# Altium integrated library Linear Technology Power Management PMIC Multifunction.IntLib: 360 symbols (part 33 of 42)
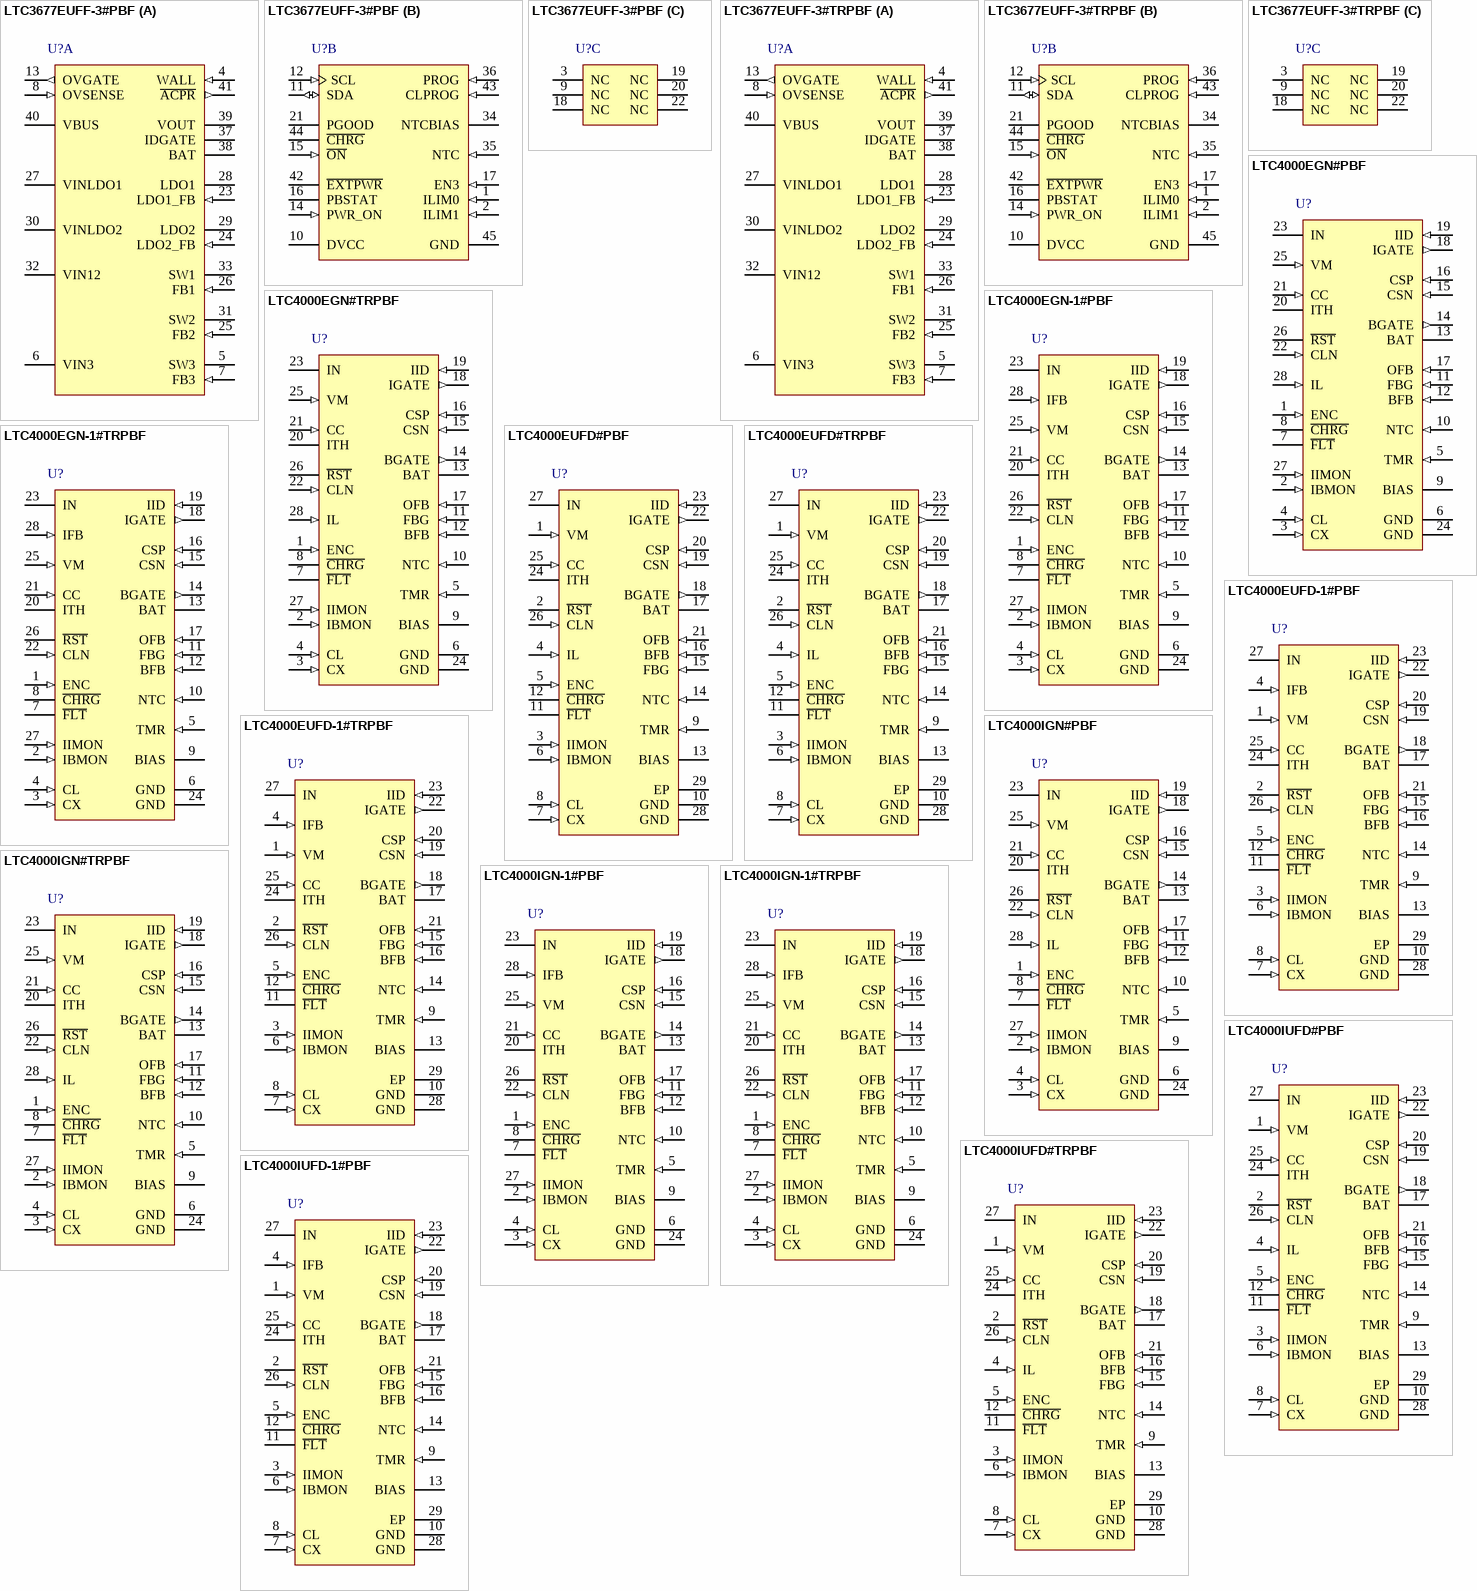
[diagram p50: symbols LTC3677EUFF-3#PBF to LTC4000IUFD-1#PBF]

## LTC4000EUFD#PBF
designator U?
High Voltage High Current Controller for Battery Charging and Power Management, 3 to 60 V Vin, 28-pin QFN (UFD-28), -40 to 125 degC, Pb-Free; Manufacturer: Linear Technology; PartNumber: LTC4000EUFD#PBF; Number of Cells: Set by external charger IC; Number of Outputs: 1; Vin Max(V): 60; Vin Min(V): 3; DatasheetVersion: Rev. B; PackageVersion: Rev. B, 06/2010; PackageReference: UFD-28; PackageDescription: 28-Pin Plastic QFN, Body 5 x 4 mm, Pitch 0.5 mm; Supplier 1: Digi-Key; Supplier Part Number 1: LTC4000EUFD#PBF-ND; Supplier 2: Newark; Supplier Part Number 2: 59T9356; RoHS: TRUE; Mounting Technology: Surface Mount; Code_JEDEC: MO-220; ComponentLink1Description: Manufacturer URL; ComponentLink1URL: http://www.linear.com/; ComponentLink2Description: Datasheet; ComponentLink2URL: http://cds.linear.com/docs/en/datasheet/4000fb.pdf; ComponentLink3Description: Package Specification; ComponentLink3URL: http://cds.linear.com/docs/en/packaging/QFN_28_05-08-1712.pdf
footprint LT-UFD-28_N (QFN, 28-Leads, Body 5.1x4.1mm, Pitch 0.5mm, Thermal Pad 3.65x2.65mm, IPC Medium Density)
footprint LT-UFD-28_L (QFN, 28-Leads, Body 5.1x4.1mm, Pitch 0.5mm, Thermal Pad 3.65x2.65mm, IPC High Density)
footprint LT-UFD-28_M (QFN, 28-Leads, Body 5.1x4.1mm, Pitch 0.5mm, Thermal Pad 3.65x2.65mm, IPC Low Density)
pins: 1 VM (in) "Voltage Monitor Input. High impedance input to an accurate comparator with a 1.193V threshold (typical). This pin controls the state of the R\S\T\ output pin. Connect a resistor divider (RVM1, RVM2) between the monitored (See Datasheet)", 2 ~{RST} (hiz) "High Voltage Open Drain Reset Output. When the voltage at the VM pin is below 1.193V, this status pin is pulled low. When driven low, this pin can disable a DC/DC converter when connected to the converter’s enable pin(See Datasheet)", 3 IIMON (in) "Input Current Monitor. The voltage on this pin is 20 times (typical) the sense voltage (VIN,CLN) across the input current sense resistor(RIS), therefore providing a voltage proportional to the input current. Connect an (See Datasheet)", 4 IL (in) "Input Current Limit Programming. Connect the input current programming resistor (RIL) to this pin. This pin sources 50uA of current. The regulation loop compares the voltage on this pin with the input current monitor voltage (See Datasheet)", 5 ENC (in) "Enable Charging Pin. High impedance digital input pin. Pull this pin above 1.5V to enable charging and below 0.5V to disable charging. Leaving this pin open causes the internal 2uA pull-up current to pull the pin to 2.5V (See Datasheet)", 6 IBMON (in) "Battery Charge Current Monitor. The voltage on this pin is 20 times (typical) the sense voltage (VCSP,CSN) across the battery current sense resistor (RCS), therefore providing a voltage proportional to the battery charge (See Datasheet)", 7 CX (in) "Charge Current Termination Programming. Connect the charge current termination programming resistor (RCX) to this pin. This pin is a high impedance input to a comparator and sources 5uA of current. When the voltage on this (See Datasheet)", 8 CL (in) "Charge Current Limit Programming. Connect the charge current programming resistor (RCL) to this pin. This pin sources 50uA of current. The regulation loop compares the voltage on this pin with the charge current monitor (See Datasheet)", 9 TMR (in) "Charge Timer. Attach 1nF of external capacitance (CTMR) to GND for each 104 seconds of charge termination time and 26 seconds of bad battery indicator time. Short to GND to prevent bad battery indicator time and charge (See Datasheet)", 10 GND (power) "Device Ground Pins. Connect the ground pins to a suitable PCB copper ground plane for proper electrical operation. The QFN package exposed pad must be soldered to PCB ground for rated thermal performance.", 11 ~{FLT} (hiz) "Charge Status Indicator Pins. These pins are high voltage open drain pull down pins. The F\L\T\ pin pulls down when there is an under or over temperature condition during charging or when the voltage on the BFB pin stays (See Datasheet)", 12 ~{CHRG} (hiz) "Charge Status Indicator Pins. These pins are high voltage open drain pull down pins. The F\L\T\ pin pulls down when there is an under or over temperature condition during charging or when the voltage on the BFB pin stays (See Datasheet)", 13 BIAS (power) "2.9V Regulator Output. Connect a capacitor of at least 470nF to bypass this 2.9V regulated voltage output. Use this pin to bias the resistor divider to set up the voltage at the NTC pin.", 14 NTC (in) "Thermistor Input. Connect a thermistor from NTC to GND, and a corresponding resistor from BIAS to NTC. The voltage level on this pin determines if the battery temperature is safe for charging. The charge current and charge (See Datasheet)", 15 FBG (in) "Feedback Ground Pin. This is the ground return pin for the resistor dividers connected to the BFB and OFB pins. As soon as the voltage at IN is valid (>3V typical), this pin has a 100ohm resistance to GND. When the voltage (See Datasheet)", 16 BFB (in) "Battery Feedback Voltage Pin. This pin is a high impedance input pin used to sense the battery voltage level. In regulation, the battery float voltage loop sets the voltage on this pin to 1.136V (typical). Connect this pin (See Datasheet)", 17 BAT (power) "Battery Pack Connection. Connect the battery to this pin. This pin is the anode of the battery ideal diode driver (the cathode is the CSN pin).", 18 BGATE (out) "External Battery PMOS Gate Drive Output. When not charging, the BGATE pin drives the external PMOS to behave as an ideal diode from the BAT pin (anode) to the CSN pin (cathode). This allows efficient delivery of any required (See Datasheet)", 19 CSN (in) "Charge Current Sense Negative Input and Battery Ideal Diode Cathode. Connect a sense resistor between this pin and the CSP pin. The LTC4000 senses the voltage across this sense resistor and regulates it to a voltage equal to (See Datasheet)", 20 CSP (in) "Charge Current Sense Positive Input and Input Ideal Diode Cathode. Connect a sense resistor between this pin and the CSN pin for charge current sensing and regulation. This input should be tied to CSN to disable the charge (See Datasheet)", 21 OFB (in) "Output Feedback Voltage Pin. This pin is a high impedance input pin used to sense the output voltage level. In regulation, the output voltage loop sets the voltage on this feedback pin to 1.193V. Connect this pin to the (See Datasheet)", 22 IGATE (out) "Input PMOS Gate Drive Output. The IGATE pin drives the external PMOS to behave as an ideal diode from the IID pin (anode) to the CSP pin (cathode) when the voltage at the IN pin is within its operating range (3V to 60V). To (See Datasheet)", 23 IID (in) "Input Ideal Diode Anode. This pin is the anode of the input ideal diode driver (the cathode is the CSP pin).", 24 ITH "High Impedance Control Voltage Pin. When any of the regulation loops (input current, charge current, battery float voltage or the output voltage) indicate that its limit is reached, the ITH pin will sink current (up to 1mA) (See Datasheet)", 25 CC (in) "Converter Compensation Pin. Connect an R-C network from this pin to the ITH pin to provide a suitable loop compensation for the converter used. Refer to the Applications Information section for discussion and procedure on (See Datasheet)", 26 CLN (in) "Input Current Sense Negative Input. Connect a sense resistor between this pin and the IN pin. The LTC4000 senses the voltage across this sense resistor and regulates it to a voltage equal to 1/20th (typical) of the voltage (See Datasheet)", 27 IN (power) "Input Supply Voltage: 3V to 60V. Supplies power to the internal circuitry and the BIAS pin. Connect the power source to the downstream system and the battery charger to this pin. This pin is also the positive sense pin for (See Datasheet)", 28 GND (power) "Device Ground Pins. Connect the ground pins to a suitable PCB copper ground plane for proper electrical operation. The QFN package exposed pad must be soldered to PCB ground for rated thermal performance.", 29 EP (power) "Device Ground Pins. Connect the ground pins to a suitable PCB copper ground plane for proper electrical operation. The QFN package exposed pad must be soldered to PCB ground for rated thermal performance."

## LTC4000EUFD#TRPBF
designator U?
High Voltage High Current Controller for Battery Charging and Power Management, 3 to 60 V Vin, 28-pin QFN (UFD-28), -40 to 125 degC, Pb-Free, Tape and Reel; Manufacturer: Linear Technology; PartNumber: LTC4000EUFD#TRPBF; Number of Cells: Set by external charger IC; Number of Outputs: 1; Vin Max(V): 60; Vin Min(V): 3; DatasheetVersion: Rev. B; PackageVersion: Rev. B, 06/2010; PackageReference: UFD-28; PackageDescription: 28-Pin Plastic QFN, Body 5 x 4 mm, Pitch 0.5 mm; Supplier 1: Digi-Key; Supplier Part Number 1: LTC4000EUFD#TRPBF-ND; Packing: Tape and Reel; RoHS: TRUE; Mounting Technology: Surface Mount; Code_JEDEC: MO-220; ComponentLink1Description: Manufacturer URL; ComponentLink1URL: http://www.linear.com/; ComponentLink2Description: Datasheet; ComponentLink2URL: http://cds.linear.com/docs/en/datasheet/4000fb.pdf; ComponentLink3Description: Package Specification; ComponentLink3URL: http://cds.linear.com/docs/en/packaging/QFN_28_05-08-1712.pdf
footprint LT-UFD-28_N (QFN, 28-Leads, Body 5.1x4.1mm, Pitch 0.5mm, Thermal Pad 3.65x2.65mm, IPC Medium Density)
footprint LT-UFD-28_L (QFN, 28-Leads, Body 5.1x4.1mm, Pitch 0.5mm, Thermal Pad 3.65x2.65mm, IPC High Density)
footprint LT-UFD-28_M (QFN, 28-Leads, Body 5.1x4.1mm, Pitch 0.5mm, Thermal Pad 3.65x2.65mm, IPC Low Density)
pins: 1 VM (in) "Voltage Monitor Input. High impedance input to an accurate comparator with a 1.193V threshold (typical). This pin controls the state of the R\S\T\ output pin. Connect a resistor divider (RVM1, RVM2) between the monitored (See Datasheet)", 2 ~{RST} (hiz) "High Voltage Open Drain Reset Output. When the voltage at the VM pin is below 1.193V, this status pin is pulled low. When driven low, this pin can disable a DC/DC converter when connected to the converter’s enable pin(See Datasheet)", 3 IIMON (in) "Input Current Monitor. The voltage on this pin is 20 times (typical) the sense voltage (VIN,CLN) across the input current sense resistor(RIS), therefore providing a voltage proportional to the input current. Connect an (See Datasheet)", 4 IL (in) "Input Current Limit Programming. Connect the input current programming resistor (RIL) to this pin. This pin sources 50uA of current. The regulation loop compares the voltage on this pin with the input current monitor voltage (See Datasheet)", 5 ENC (in) "Enable Charging Pin. High impedance digital input pin. Pull this pin above 1.5V to enable charging and below 0.5V to disable charging. Leaving this pin open causes the internal 2uA pull-up current to pull the pin to 2.5V (See Datasheet)", 6 IBMON (in) "Battery Charge Current Monitor. The voltage on this pin is 20 times (typical) the sense voltage (VCSP,CSN) across the battery current sense resistor (RCS), therefore providing a voltage proportional to the battery charge (See Datasheet)", 7 CX (in) "Charge Current Termination Programming. Connect the charge current termination programming resistor (RCX) to this pin. This pin is a high impedance input to a comparator and sources 5uA of current. When the voltage on this (See Datasheet)", 8 CL (in) "Charge Current Limit Programming. Connect the charge current programming resistor (RCL) to this pin. This pin sources 50uA of current. The regulation loop compares the voltage on this pin with the charge current monitor (See Datasheet)", 9 TMR (in) "Charge Timer. Attach 1nF of external capacitance (CTMR) to GND for each 104 seconds of charge termination time and 26 seconds of bad battery indicator time. Short to GND to prevent bad battery indicator time and charge (See Datasheet)", 10 GND (power) "Device Ground Pins. Connect the ground pins to a suitable PCB copper ground plane for proper electrical operation. The QFN package exposed pad must be soldered to PCB ground for rated thermal performance.", 11 ~{FLT} (hiz) "Charge Status Indicator Pins. These pins are high voltage open drain pull down pins. The F\L\T\ pin pulls down when there is an under or over temperature condition during charging or when the voltage on the BFB pin stays (See Datasheet)", 12 ~{CHRG} (hiz) "Charge Status Indicator Pins. These pins are high voltage open drain pull down pins. The F\L\T\ pin pulls down when there is an under or over temperature condition during charging or when the voltage on the BFB pin stays (See Datasheet)", 13 BIAS (power) "2.9V Regulator Output. Connect a capacitor of at least 470nF to bypass this 2.9V regulated voltage output. Use this pin to bias the resistor divider to set up the voltage at the NTC pin.", 14 NTC (in) "Thermistor Input. Connect a thermistor from NTC to GND, and a corresponding resistor from BIAS to NTC. The voltage level on this pin determines if the battery temperature is safe for charging. The charge current and charge (See Datasheet)", 15 FBG (in) "Feedback Ground Pin. This is the ground return pin for the resistor dividers connected to the BFB and OFB pins. As soon as the voltage at IN is valid (>3V typical), this pin has a 100ohm resistance to GND. When the voltage (See Datasheet)", 16 BFB (in) "Battery Feedback Voltage Pin. This pin is a high impedance input pin used to sense the battery voltage level. In regulation, the battery float voltage loop sets the voltage on this pin to 1.136V (typical). Connect this pin (See Datasheet)", 17 BAT (power) "Battery Pack Connection. Connect the battery to this pin. This pin is the anode of the battery ideal diode driver (the cathode is the CSN pin).", 18 BGATE (out) "External Battery PMOS Gate Drive Output. When not charging, the BGATE pin drives the external PMOS to behave as an ideal diode from the BAT pin (anode) to the CSN pin (cathode). This allows efficient delivery of any required (See Datasheet)", 19 CSN (in) "Charge Current Sense Negative Input and Battery Ideal Diode Cathode. Connect a sense resistor between this pin and the CSP pin. The LTC4000 senses the voltage across this sense resistor and regulates it to a voltage equal to (See Datasheet)", 20 CSP (in) "Charge Current Sense Positive Input and Input Ideal Diode Cathode. Connect a sense resistor between this pin and the CSN pin for charge current sensing and regulation. This input should be tied to CSN to disable the charge (See Datasheet)", 21 OFB (in) "Output Feedback Voltage Pin. This pin is a high impedance input pin used to sense the output voltage level. In regulation, the output voltage loop sets the voltage on this feedback pin to 1.193V. Connect this pin to the (See Datasheet)", 22 IGATE (out) "Input PMOS Gate Drive Output. The IGATE pin drives the external PMOS to behave as an ideal diode from the IID pin (anode) to the CSP pin (cathode) when the voltage at the IN pin is within its operating range (3V to 60V). To (See Datasheet)", 23 IID (in) "Input Ideal Diode Anode. This pin is the anode of the input ideal diode driver (the cathode is the CSP pin).", 24 ITH "High Impedance Control Voltage Pin. When any of the regulation loops (input current, charge current, battery float voltage or the output voltage) indicate that its limit is reached, the ITH pin will sink current (up to 1mA) (See Datasheet)", 25 CC (in) "Converter Compensation Pin. Connect an R-C network from this pin to the ITH pin to provide a suitable loop compensation for the converter used. Refer to the Applications Information section for discussion and procedure on (See Datasheet)", 26 CLN (in) "Input Current Sense Negative Input. Connect a sense resistor between this pin and the IN pin. The LTC4000 senses the voltage across this sense resistor and regulates it to a voltage equal to 1/20th (typical) of the voltage (See Datasheet)", 27 IN (power) "Input Supply Voltage: 3V to 60V. Supplies power to the internal circuitry and the BIAS pin. Connect the power source to the downstream system and the battery charger to this pin. This pin is also the positive sense pin for (See Datasheet)", 28 GND (power) "Device Ground Pins. Connect the ground pins to a suitable PCB copper ground plane for proper electrical operation. The QFN package exposed pad must be soldered to PCB ground for rated thermal performance.", 29 EP (power) "Device Ground Pins. Connect the ground pins to a suitable PCB copper ground plane for proper electrical operation. The QFN package exposed pad must be soldered to PCB ground for rated thermal performance."

## LTC4000EUFD-1#PBF
designator U?
High Voltage High Current Controller for Battery Charging with Maximum Power Point Control, 3 to 60 V Vin, 28-pin QFN (UFD-28), -40 to 125 degC, Pb-Free; Manufacturer: Linear Technology; PartNumber: LTC4000EUFD-1#PBF; Number of Cells: Set by external charger IC; Number of Outputs: 1; Vin Max(V): 60; Vin Min(V): 3; DatasheetVersion: Rev. A; PackageVersion: Rev. B, 06/2010; PackageReference: UFD-28; PackageDescription: 28-Pin Plastic QFN, Body 5 x 4 mm, Pitch 0.5 mm; Supplier 1: Digi-Key; Supplier Part Number 1: LTC4000EUFD-1#PBF-ND; Supplier 2: Farnell; Supplier Part Number 2: 2215170; Supplier 3: Newark; Supplier Part Number 3: 28W4618; RoHS: TRUE; Mounting Technology: Surface Mount; Code_JEDEC: MO-220; ComponentLink1Description: Manufacturer URL; ComponentLink1URL: http://www.linear.com/; ComponentLink2Description: Datasheet; ComponentLink2URL: http://cds.linear.com/docs/en/datasheet/40001fa.pdf; ComponentLink3Description: Package Specification; ComponentLink3URL: http://cds.linear.com/docs/en/packaging/QFN_28_05-08-1712.pdf
footprint LT-UFD-28_N (QFN, 28-Leads, Body 5.1x4.1mm, Pitch 0.5mm, Thermal Pad 3.65x2.65mm, IPC Medium Density)
footprint LT-UFD-28_L (QFN, 28-Leads, Body 5.1x4.1mm, Pitch 0.5mm, Thermal Pad 3.65x2.65mm, IPC High Density)
footprint LT-UFD-28_M (QFN, 28-Leads, Body 5.1x4.1mm, Pitch 0.5mm, Thermal Pad 3.65x2.65mm, IPC Low Density)
pins: 1 VM (in) "Voltage Monitor Input. High impedance input to an accurate comparator with a 1.193V threshold (typical). This pin controls the state of the R\S\T\ output pin. Connect a resistor divider (RVM1, RVM2) between the monitored (See Datasheet)", 2 ~{RST} (hiz) "High Voltage Open Drain Reset Output. When the voltage at the VM pin is below 1.193V, this status pin is pulled low. When driven low, this pin can disable a DC/DC converter when connected to the converter’s enable pin(See Datasheet)", 3 IIMON (in) "Input Current Monitor. The voltage on this pin is 20 times (typical) the sense voltage (VIN,CLN) across the input current sense resistor(RIS), therefore providing a voltage proportional to the input current. Connect an (See Datasheet)", 4 IFB (in) "Input Voltage Feedback Pin. This pin is a high impedance input pin used to sense the input voltage level. In regulation, the input voltage loop sets the voltage on this feedback pin to 1.000V. When the input feedback voltage (See Datasheet)", 5 ENC (in) "Enable Charging Pin. High impedance digital input pin. Pull this pin above 1.5V to enable charging and below 0.5V to disable charging. Leaving this pin open causes the internal 2uA pull-up current to pull the pin to 2.5V (See Datasheet)", 6 IBMON (in) "Battery Charge Current Monitor. The voltage on this pin is 20 times (typical) the sense voltage (VCSP,CSN) across the battery current sense resistor (RCS), therefore providing a voltage proportional to the battery charge (See Datasheet)", 7 CX (in) "Charge Current Termination Programming. Connect the charge current termination programming resistor (RCX) to this pin. This pin is a high impedance input to a comparator and sources 5uA of current. When the voltage on this (See Datasheet)", 8 CL (in) "Charge Current Limit Programming. Connect the charge current programming resistor (RCL) to this pin. This pin sources 50uA of current. The regulation loop compares the voltage on this pin with the charge current monitor (See Datasheet)", 9 TMR (in) "Charge Timer. Attach 1nF of external capacitance (CTMR) to GND for each 104 seconds of charge termination time and 26 seconds of bad battery indicator time. Short to GND to prevent bad battery indicator time and charge (See Datasheet)", 10 GND (power) "Device Ground Pins. Connect the ground pins to a suitable PCB copper ground plane for proper electrical operation. The QFN package exposed pad must be soldered to PCB ground for rated thermal performance.", 11 ~{FLT} (hiz) "Charge Status Indicator Pins. These pins are high voltage open drain pull down pins. The F\L\T\ pin pulls down when there is an under or over temperature condition during charging or when the voltage on the BFB pin stays (See Datasheet)", 12 ~{CHRG} (hiz) "Charge Status Indicator Pins. These pins are high voltage open drain pull down pins. The F\L\T\ pin pulls down when there is an under or over temperature condition during charging or when the voltage on the BFB pin stays (See Datasheet)", 13 BIAS (power) "2.9V Regulator Output. Connect a capacitor of at least 470nF to bypass this 2.9V regulated voltage output. Use this pin to bias the resistor divider to set up the voltage at the NTC pin.", 14 NTC (in) "Thermistor Input. Connect a thermistor from NTC to GND, and a corresponding resistor from BIAS to NTC. The voltage level on this pin determines if the battery temperature is safe for charging. The charge current and charge (See Datasheet)", 15 FBG (in) "Feedback Ground Pin. This is the ground return pin for the resistor dividers connected to the BFB and OFB pins. As soon as the voltage at IN is valid (>3V typical), this pin has a 100ohm resistance to GND. When the voltage (See Datasheet)", 16 BFB (in) "Battery Feedback Voltage Pin. This pin is a high impedance input pin used to sense the battery voltage level. In regulation, the battery float voltage loop sets the voltage on this pin to 1.136V (typical). Connect this pin (See Datasheet)", 17 BAT (power) "Battery Pack Connection. Connect the battery to this pin. This pin is the anode of the battery ideal diode driver (the cathode is the CSN pin).", 18 BGATE (out) "External Battery PMOS Gate Drive Output. When not charging, the BGATE pin drives the external PMOS to behave as an ideal diode from the BAT pin (anode) to the CSN pin (cathode). This allows efficient delivery of any required (See Datasheet)", 19 CSN (in) "Charge Current Sense Negative Input and Battery Ideal Diode Cathode. Connect a sense resistor between this pin and the CSP pin. The LTC4000-1 senses the voltage across this sense resistor and regulates it to a voltage equal (See Datasheet)", 20 CSP (in) "Charge Current Sense Positive Input and Input Ideal Diode Cathode. Connect a sense resistor between this pin and the CSN pin for charge current sensing and regulation. This input should be tied to CSN to disable the charge (See Datasheet)", 21 OFB (in) "Output Feedback Voltage Pin. This pin is a high impedance input pin used to sense the output voltage level. In regulation, the output voltage loop sets the voltage on this feedback pin to 1.193V. Connect this pin to the (See Datasheet)", 22 IGATE (out) "Input PMOS Gate Drive Output. The IGATE pin drives the external PMOS to behave as an ideal diode from the IID pin (anode) to the CSP pin (cathode) when the voltage at the IN pin is within its operating range (3V to 60V). To (See Datasheet)", 23 IID (in) "Input Ideal Diode Anode. This pin is the anode of the input ideal diode driver (the cathode is the CSP pin).", 24 ITH "High Impedance Control Voltage Pin. When any of the regulation loops (input voltage, charge current, battery float voltage or the output voltage) indicate that its limit is reached, the ITH pin will sink current (up to 1mA) (See Datasheet)", 25 CC (in) "Converter Compensation Pin. Connect an R-C network from this pin to the ITH pin to provide a suitable loop compensation for the converter used. Refer to the Applications Information section for discussion and procedure on (See Datasheet)", 26 CLN (in) "Input Current Sense Negative Input. Connect a sense resistor between this pin and the IN pin. The LTC4000-1 senses the voltage across this sense resistor and sets the voltage on the IIMON pin equal to 20 times this voltage. (See Datasheet)", 27 IN (power) "Input Supply Voltage: 3V to 60V. Supplies power to the internal circuitry and the BIAS pin. Connect the power source to the downstream system and the battery charger to this pin. This pin is also the positive sense pin for (See Datasheet)", 28 GND (power) "Device Ground Pins. Connect the ground pins to a suitable PCB copper ground plane for proper electrical operation. The QFN package exposed pad must be soldered to PCB ground for rated thermal performance.", 29 EP (power) "Device Ground Pins. Connect the ground pins to a suitable PCB copper ground plane for proper electrical operation. The QFN package exposed pad must be soldered to PCB ground for rated thermal performance."

## LTC4000EUFD-1#TRPBF
designator U?
High Voltage High Current Controller for Battery Charging with Maximum Power Point Control, 3 to 60 V Vin, 28-pin QFN (UFD-28), -40 to 125 degC, Pb-Free, Tape and Reel; Manufacturer: Linear Technology; PartNumber: LTC4000EUFD-1#TRPBF; Number of Cells: Set by external charger IC; Number of Outputs: 1; Vin Max(V): 60; Vin Min(V): 3; DatasheetVersion: Rev. A; PackageVersion: Rev. B, 06/2010; PackageReference: UFD-28; PackageDescription: 28-Pin Plastic QFN, Body 5 x 4 mm, Pitch 0.5 mm; Supplier 1: Digi-Key; Supplier Part Number 1: LTC4000EUFD-1#TRPBF-ND; Supplier 2: Newark; Supplier Part Number 2: 28W4619; Packing: Tape and Reel; RoHS: TRUE; Mounting Technology: Surface Mount; Code_JEDEC: MO-220; ComponentLink1Description: Manufacturer URL; ComponentLink1URL: http://www.linear.com/; ComponentLink2Description: Datasheet; ComponentLink2URL: http://cds.linear.com/docs/en/datasheet/40001fa.pdf; ComponentLink3Description: Package Specification; ComponentLink3URL: http://cds.linear.com/docs/en/packaging/QFN_28_05-08-1712.pdf
footprint LT-UFD-28_N (QFN, 28-Leads, Body 5.1x4.1mm, Pitch 0.5mm, Thermal Pad 3.65x2.65mm, IPC Medium Density)
footprint LT-UFD-28_L (QFN, 28-Leads, Body 5.1x4.1mm, Pitch 0.5mm, Thermal Pad 3.65x2.65mm, IPC High Density)
footprint LT-UFD-28_M (QFN, 28-Leads, Body 5.1x4.1mm, Pitch 0.5mm, Thermal Pad 3.65x2.65mm, IPC Low Density)
pins: 1 VM (in) "Voltage Monitor Input. High impedance input to an accurate comparator with a 1.193V threshold (typical). This pin controls the state of the R\S\T\ output pin. Connect a resistor divider (RVM1, RVM2) between the monitored (See Datasheet)", 2 ~{RST} (hiz) "High Voltage Open Drain Reset Output. When the voltage at the VM pin is below 1.193V, this status pin is pulled low. When driven low, this pin can disable a DC/DC converter when connected to the converter’s enable pin(See Datasheet)", 3 IIMON (in) "Input Current Monitor. The voltage on this pin is 20 times (typical) the sense voltage (VIN,CLN) across the input current sense resistor(RIS), therefore providing a voltage proportional to the input current. Connect an (See Datasheet)", 4 IFB (in) "Input Voltage Feedback Pin. This pin is a high impedance input pin used to sense the input voltage level. In regulation, the input voltage loop sets the voltage on this feedback pin to 1.000V. When the input feedback voltage (See Datasheet)", 5 ENC (in) "Enable Charging Pin. High impedance digital input pin. Pull this pin above 1.5V to enable charging and below 0.5V to disable charging. Leaving this pin open causes the internal 2uA pull-up current to pull the pin to 2.5V (See Datasheet)", 6 IBMON (in) "Battery Charge Current Monitor. The voltage on this pin is 20 times (typical) the sense voltage (VCSP,CSN) across the battery current sense resistor (RCS), therefore providing a voltage proportional to the battery charge (See Datasheet)", 7 CX (in) "Charge Current Termination Programming. Connect the charge current termination programming resistor (RCX) to this pin. This pin is a high impedance input to a comparator and sources 5uA of current. When the voltage on this (See Datasheet)", 8 CL (in) "Charge Current Limit Programming. Connect the charge current programming resistor (RCL) to this pin. This pin sources 50uA of current. The regulation loop compares the voltage on this pin with the charge current monitor (See Datasheet)", 9 TMR (in) "Charge Timer. Attach 1nF of external capacitance (CTMR) to GND for each 104 seconds of charge termination time and 26 seconds of bad battery indicator time. Short to GND to prevent bad battery indicator time and charge (See Datasheet)", 10 GND (power) "Device Ground Pins. Connect the ground pins to a suitable PCB copper ground plane for proper electrical operation. The QFN package exposed pad must be soldered to PCB ground for rated thermal performance.", 11 ~{FLT} (hiz) "Charge Status Indicator Pins. These pins are high voltage open drain pull down pins. The F\L\T\ pin pulls down when there is an under or over temperature condition during charging or when the voltage on the BFB pin stays (See Datasheet)", 12 ~{CHRG} (hiz) "Charge Status Indicator Pins. These pins are high voltage open drain pull down pins. The F\L\T\ pin pulls down when there is an under or over temperature condition during charging or when the voltage on the BFB pin stays (See Datasheet)", 13 BIAS (power) "2.9V Regulator Output. Connect a capacitor of at least 470nF to bypass this 2.9V regulated voltage output. Use this pin to bias the resistor divider to set up the voltage at the NTC pin.", 14 NTC (in) "Thermistor Input. Connect a thermistor from NTC to GND, and a corresponding resistor from BIAS to NTC. The voltage level on this pin determines if the battery temperature is safe for charging. The charge current and charge (See Datasheet)", 15 FBG (in) "Feedback Ground Pin. This is the ground return pin for the resistor dividers connected to the BFB and OFB pins. As soon as the voltage at IN is valid (>3V typical), this pin has a 100ohm resistance to GND. When the voltage (See Datasheet)", 16 BFB (in) "Battery Feedback Voltage Pin. This pin is a high impedance input pin used to sense the battery voltage level. In regulation, the battery float voltage loop sets the voltage on this pin to 1.136V (typical). Connect this pin (See Datasheet)", 17 BAT (power) "Battery Pack Connection. Connect the battery to this pin. This pin is the anode of the battery ideal diode driver (the cathode is the CSN pin).", 18 BGATE (out) "External Battery PMOS Gate Drive Output. When not charging, the BGATE pin drives the external PMOS to behave as an ideal diode from the BAT pin (anode) to the CSN pin (cathode). This allows efficient delivery of any required (See Datasheet)", 19 CSN (in) "Charge Current Sense Negative Input and Battery Ideal Diode Cathode. Connect a sense resistor between this pin and the CSP pin. The LTC4000-1 senses the voltage across this sense resistor and regulates it to a voltage equal (See Datasheet)", 20 CSP (in) "Charge Current Sense Positive Input and Input Ideal Diode Cathode. Connect a sense resistor between this pin and the CSN pin for charge current sensing and regulation. This input should be tied to CSN to disable the charge (See Datasheet)", 21 OFB (in) "Output Feedback Voltage Pin. This pin is a high impedance input pin used to sense the output voltage level. In regulation, the output voltage loop sets the voltage on this feedback pin to 1.193V. Connect this pin to the (See Datasheet)", 22 IGATE (out) "Input PMOS Gate Drive Output. The IGATE pin drives the external PMOS to behave as an ideal diode from the IID pin (anode) to the CSP pin (cathode) when the voltage at the IN pin is within its operating range (3V to 60V). To (See Datasheet)", 23 IID (in) "Input Ideal Diode Anode. This pin is the anode of the input ideal diode driver (the cathode is the CSP pin).", 24 ITH "High Impedance Control Voltage Pin. When any of the regulation loops (input voltage, charge current, battery float voltage or the output voltage) indicate that its limit is reached, the ITH pin will sink current (up to 1mA) (See Datasheet)", 25 CC (in) "Converter Compensation Pin. Connect an R-C network from this pin to the ITH pin to provide a suitable loop compensation for the converter used. Refer to the Applications Information section for discussion and procedure on (See Datasheet)", 26 CLN (in) "Input Current Sense Negative Input. Connect a sense resistor between this pin and the IN pin. The LTC4000-1 senses the voltage across this sense resistor and sets the voltage on the IIMON pin equal to 20 times this voltage. (See Datasheet)", 27 IN (power) "Input Supply Voltage: 3V to 60V. Supplies power to the internal circuitry and the BIAS pin. Connect the power source to the downstream system and the battery charger to this pin. This pin is also the positive sense pin for (See Datasheet)", 28 GND (power) "Device Ground Pins. Connect the ground pins to a suitable PCB copper ground plane for proper electrical operation. The QFN package exposed pad must be soldered to PCB ground for rated thermal performance.", 29 EP (power) "Device Ground Pins. Connect the ground pins to a suitable PCB copper ground plane for proper electrical operation. The QFN package exposed pad must be soldered to PCB ground for rated thermal performance."

## LTC4000IGN#PBF
designator U?
High Voltage High Current Controller for Battery Charging and Power Management, 3 to 60 V Vin, 28-pin SOP (GN-28), -40 to 125 degC, Pb-Free; Manufacturer: Linear Technology; PartNumber: LTC4000IGN#PBF; Number of Cells: Set by external charger IC; Number of Outputs: 1; Vin Max(V): 60; Vin Min(V): 3; DatasheetVersion: Rev. B; PackageVersion: Rev. B, 03/2012; PackageReference: GN-28; PackageDescription: 28-Pin Plastic SSOP, Body 9.9 x 3.9 mm, Pitch 0.635 mm; Supplier 1: Digi-Key; Supplier Part Number 1: LTC4000IGN#PBF-ND; RoHS: TRUE; Mounting Technology: Surface Mount; ComponentLink1Description: Manufacturer URL; ComponentLink1URL: http://www.linear.com/; ComponentLink2Description: Datasheet; ComponentLink2URL: http://cds.linear.com/docs/en/datasheet/4000fb.pdf; ComponentLink3Description: Package Specification; ComponentLink3URL: http://cds.linear.com/docs/en/packaging/05081641_B_GN28.pdf
footprint LT-GN-28_N (SOP, 28-Leads, Body 9.98x3.98mm, Pitch 0.635mm, IPC Medium Density)
footprint LT-GN-28_L (SOP, 28-Leads, Body 9.98x3.98mm, Pitch 0.635mm, IPC High Density)
footprint LT-GN-28_M (SOP, 28-Leads, Body 9.98x3.98mm, Pitch 0.635mm, IPC Low Density)
pins: 1 ENC (in) "Enable Charging Pin. High impedance digital input pin. Pull this pin above 1.5V to enable charging and below 0.5V to disable charging. Leaving this pin open causes the internal 2uA pull-up current to pull the pin to 2.5V (See Datasheet)", 2 IBMON (in) "Battery Charge Current Monitor. The voltage on this pin is 20 times (typical) the sense voltage (VCSP,CSN) across the battery current sense resistor (RCS), therefore providing a voltage proportional to the battery charge (See Datasheet)", 3 CX (in) "Charge Current Termination Programming. Connect the charge current termination programming resistor (RCX) to this pin. This pin is a high impedance input to a comparator and sources 5uA of current. When the voltage on this (See Datasheet)", 4 CL (in) "Charge Current Limit Programming. Connect the charge current programming resistor (RCL) to this pin. This pin sources 50uA of current. The regulation loop compares the voltage on this pin with the charge current monitor (See Datasheet)", 5 TMR (in) "Charge Timer. Attach 1nF of external capacitance (CTMR) to GND for each 104 seconds of charge termination time and 26 seconds of bad battery indicator time. Short to GND to prevent bad battery indicator time and charge (See Datasheet)", 6 GND (power) "Device Ground Pins. Connect the ground pins to a suitable PCB copper ground plane for proper electrical operation. The QFN package exposed pad must be soldered to PCB ground for rated thermal performance.", 7 ~{FLT} (hiz) "Charge Status Indicator Pins. These pins are high voltage open drain pull down pins. The F\L\T\ pin pulls down when there is an under or over temperature condition during charging or when the voltage on the BFB pin stays (See Datasheet)", 8 ~{CHRG} (hiz) "Charge Status Indicator Pins. These pins are high voltage open drain pull down pins. The F\L\T\ pin pulls down when there is an under or over temperature condition during charging or when the voltage on the BFB pin stays (See Datasheet)", 9 BIAS (power) "2.9V Regulator Output. Connect a capacitor of at least 470nF to bypass this 2.9V regulated voltage output. Use this pin to bias the resistor divider to set up the voltage at the NTC pin.", 10 NTC (in) "Thermistor Input. Connect a thermistor from NTC to GND, and a corresponding resistor from BIAS to NTC. The voltage level on this pin determines if the battery temperature is safe for charging. The charge current and charge (See Datasheet)", 11 FBG (in) "Feedback Ground Pin. This is the ground return pin for the resistor dividers connected to the BFB and OFB pins. As soon as the voltage at IN is valid (>3V typical), this pin has a 100ohm resistance to GND. When the voltage (See Datasheet)", 12 BFB (in) "Battery Feedback Voltage Pin. This pin is a high impedance input pin used to sense the battery voltage level. In regulation, the battery float voltage loop sets the voltage on this pin to 1.136V (typical). Connect this pin (See Datasheet)", 13 BAT (power) "Battery Pack Connection. Connect the battery to this pin. This pin is the anode of the battery ideal diode driver (the cathode is the CSN pin).", 14 BGATE (out) "External Battery PMOS Gate Drive Output. When not charging, the BGATE pin drives the external PMOS to behave as an ideal diode from the BAT pin (anode) to the CSN pin (cathode). This allows efficient delivery of any required (See Datasheet)", 15 CSN (in) "Charge Current Sense Negative Input and Battery Ideal Diode Cathode. Connect a sense resistor between this pin and the CSP pin. The LTC4000 senses the voltage across this sense resistor and regulates it to a voltage equal to (See Datasheet)", 16 CSP (in) "Charge Current Sense Positive Input and Input Ideal Diode Cathode. Connect a sense resistor between this pin and the CSN pin for charge current sensing and regulation. This input should be tied to CSN to disable the charge (See Datasheet)", 17 OFB (in) "Output Feedback Voltage Pin. This pin is a high impedance input pin used to sense the output voltage level. In regulation, the output voltage loop sets the voltage on this feedback pin to 1.193V. Connect this pin to the (See Datasheet)", 18 IGATE (out) "Input PMOS Gate Drive Output. The IGATE pin drives the external PMOS to behave as an ideal diode from the IID pin (anode) to the CSP pin (cathode) when the voltage at the IN pin is within its operating range (3V to 60V). To (See Datasheet)", 19 IID (in) "Input Ideal Diode Anode. This pin is the anode of the input ideal diode driver (the cathode is the CSP pin).", 20 ITH "High Impedance Control Voltage Pin. When any of the regulation loops (input current, charge current, battery float voltage or the output voltage) indicate that its limit is reached, the ITH pin will sink current (up to 1mA) (See Datasheet)", 21 CC (in) "Converter Compensation Pin. Connect an R-C network from this pin to the ITH pin to provide a suitable loop compensation for the converter used. Refer to the Applications Information section for discussion and procedure on (See Datasheet)", 22 CLN (in) "Input Current Sense Negative Input. Connect a sense resistor between this pin and the IN pin. The LTC4000 senses the voltage across this sense resistor and regulates it to a voltage equal to 1/20th (typical) of the voltage (See Datasheet)", 23 IN (power) "Input Supply Voltage: 3V to 60V. Supplies power to the internal circuitry and the BIAS pin. Connect the power source to the downstream system and the battery charger to this pin. This pin is also the positive sense pin for (See Datasheet)", 24 GND (power) "Device Ground Pins. Connect the ground pins to a suitable PCB copper ground plane for proper electrical operation. The QFN package exposed pad must be soldered to PCB ground for rated thermal performance.", 25 VM (in) "Voltage Monitor Input. High impedance input to an accurate comparator with a 1.193V threshold (typical). This pin controls the state of the R\S\T\ output pin. Connect a resistor divider (RVM1, RVM2) between the monitored (See Datasheet)", 26 ~{RST} (hiz) "High Voltage Open Drain Reset Output. When the voltage at the VM pin is below 1.193V, this status pin is pulled low. When driven low, this pin can disable a DC/DC converter when connected to the converter’s enable pin(See Datasheet)", 27 IIMON (in) "Input Current Monitor. The voltage on this pin is 20 times (typical) the sense voltage (VIN,CLN) across the input current sense resistor(RIS), therefore providing a voltage proportional to the input current. Connect an (See Datasheet)", 28 IL (in) "Input Current Limit Programming. Connect the input current programming resistor (RIL) to this pin. This pin sources 50uA of current. The regulation loop compares the voltage on this pin with the input current monitor voltage (See Datasheet)"

## LTC4000IGN#TRPBF
designator U?
High Voltage High Current Controller for Battery Charging and Power Management, 3 to 60 V Vin, 28-pin SOP (GN-28), -40 to 125 degC, Pb-Free, Tape and Reel; Manufacturer: Linear Technology; PartNumber: LTC4000IGN#TRPBF; Number of Cells: Set by external charger IC; Number of Outputs: 1; Vin Max(V): 60; Vin Min(V): 3; DatasheetVersion: Rev. B; PackageVersion: Rev. B, 03/2012; PackageReference: GN-28; PackageDescription: 28-Pin Plastic SSOP, Body 9.9 x 3.9 mm, Pitch 0.635 mm; Supplier 1: Digi-Key; Supplier Part Number 1: LTC4000IGN#TRPBF-ND; Packing: Tape and Reel; RoHS: TRUE; Mounting Technology: Surface Mount; ComponentLink1Description: Manufacturer URL; ComponentLink1URL: http://www.linear.com/; ComponentLink2Description: Datasheet; ComponentLink2URL: http://cds.linear.com/docs/en/datasheet/4000fb.pdf; ComponentLink3Description: Package Specification; ComponentLink3URL: http://cds.linear.com/docs/en/packaging/05081641_B_GN28.pdf
footprint LT-GN-28_N (SOP, 28-Leads, Body 9.98x3.98mm, Pitch 0.635mm, IPC Medium Density)
footprint LT-GN-28_L (SOP, 28-Leads, Body 9.98x3.98mm, Pitch 0.635mm, IPC High Density)
footprint LT-GN-28_M (SOP, 28-Leads, Body 9.98x3.98mm, Pitch 0.635mm, IPC Low Density)
pins: 1 ENC (in) "Enable Charging Pin. High impedance digital input pin. Pull this pin above 1.5V to enable charging and below 0.5V to disable charging. Leaving this pin open causes the internal 2uA pull-up current to pull the pin to 2.5V (See Datasheet)", 2 IBMON (in) "Battery Charge Current Monitor. The voltage on this pin is 20 times (typical) the sense voltage (VCSP,CSN) across the battery current sense resistor (RCS), therefore providing a voltage proportional to the battery charge (See Datasheet)", 3 CX (in) "Charge Current Termination Programming. Connect the charge current termination programming resistor (RCX) to this pin. This pin is a high impedance input to a comparator and sources 5uA of current. When the voltage on this (See Datasheet)", 4 CL (in) "Charge Current Limit Programming. Connect the charge current programming resistor (RCL) to this pin. This pin sources 50uA of current. The regulation loop compares the voltage on this pin with the charge current monitor (See Datasheet)", 5 TMR (in) "Charge Timer. Attach 1nF of external capacitance (CTMR) to GND for each 104 seconds of charge termination time and 26 seconds of bad battery indicator time. Short to GND to prevent bad battery indicator time and charge (See Datasheet)", 6 GND (power) "Device Ground Pins. Connect the ground pins to a suitable PCB copper ground plane for proper electrical operation. The QFN package exposed pad must be soldered to PCB ground for rated thermal performance.", 7 ~{FLT} (hiz) "Charge Status Indicator Pins. These pins are high voltage open drain pull down pins. The F\L\T\ pin pulls down when there is an under or over temperature condition during charging or when the voltage on the BFB pin stays (See Datasheet)", 8 ~{CHRG} (hiz) "Charge Status Indicator Pins. These pins are high voltage open drain pull down pins. The F\L\T\ pin pulls down when there is an under or over temperature condition during charging or when the voltage on the BFB pin stays (See Datasheet)", 9 BIAS (power) "2.9V Regulator Output. Connect a capacitor of at least 470nF to bypass this 2.9V regulated voltage output. Use this pin to bias the resistor divider to set up the voltage at the NTC pin.", 10 NTC (in) "Thermistor Input. Connect a thermistor from NTC to GND, and a corresponding resistor from BIAS to NTC. The voltage level on this pin determines if the battery temperature is safe for charging. The charge current and charge (See Datasheet)", 11 FBG (in) "Feedback Ground Pin. This is the ground return pin for the resistor dividers connected to the BFB and OFB pins. As soon as the voltage at IN is valid (>3V typical), this pin has a 100ohm resistance to GND. When the voltage (See Datasheet)", 12 BFB (in) "Battery Feedback Voltage Pin. This pin is a high impedance input pin used to sense the battery voltage level. In regulation, the battery float voltage loop sets the voltage on this pin to 1.136V (typical). Connect this pin (See Datasheet)", 13 BAT (power) "Battery Pack Connection. Connect the battery to this pin. This pin is the anode of the battery ideal diode driver (the cathode is the CSN pin).", 14 BGATE (out) "External Battery PMOS Gate Drive Output. When not charging, the BGATE pin drives the external PMOS to behave as an ideal diode from the BAT pin (anode) to the CSN pin (cathode). This allows efficient delivery of any required (See Datasheet)", 15 CSN (in) "Charge Current Sense Negative Input and Battery Ideal Diode Cathode. Connect a sense resistor between this pin and the CSP pin. The LTC4000 senses the voltage across this sense resistor and regulates it to a voltage equal to (See Datasheet)", 16 CSP (in) "Charge Current Sense Positive Input and Input Ideal Diode Cathode. Connect a sense resistor between this pin and the CSN pin for charge current sensing and regulation. This input should be tied to CSN to disable the charge (See Datasheet)", 17 OFB (in) "Output Feedback Voltage Pin. This pin is a high impedance input pin used to sense the output voltage level. In regulation, the output voltage loop sets the voltage on this feedback pin to 1.193V. Connect this pin to the (See Datasheet)", 18 IGATE (out) "Input PMOS Gate Drive Output. The IGATE pin drives the external PMOS to behave as an ideal diode from the IID pin (anode) to the CSP pin (cathode) when the voltage at the IN pin is within its operating range (3V to 60V). To (See Datasheet)", 19 IID (in) "Input Ideal Diode Anode. This pin is the anode of the input ideal diode driver (the cathode is the CSP pin).", 20 ITH "High Impedance Control Voltage Pin. When any of the regulation loops (input current, charge current, battery float voltage or the output voltage) indicate that its limit is reached, the ITH pin will sink current (up to 1mA) (See Datasheet)", 21 CC (in) "Converter Compensation Pin. Connect an R-C network from this pin to the ITH pin to provide a suitable loop compensation for the converter used. Refer to the Applications Information section for discussion and procedure on (See Datasheet)", 22 CLN (in) "Input Current Sense Negative Input. Connect a sense resistor between this pin and the IN pin. The LTC4000 senses the voltage across this sense resistor and regulates it to a voltage equal to 1/20th (typical) of the voltage (See Datasheet)", 23 IN (power) "Input Supply Voltage: 3V to 60V. Supplies power to the internal circuitry and the BIAS pin. Connect the power source to the downstream system and the battery charger to this pin. This pin is also the positive sense pin for (See Datasheet)", 24 GND (power) "Device Ground Pins. Connect the ground pins to a suitable PCB copper ground plane for proper electrical operation. The QFN package exposed pad must be soldered to PCB ground for rated thermal performance.", 25 VM (in) "Voltage Monitor Input. High impedance input to an accurate comparator with a 1.193V threshold (typical). This pin controls the state of the R\S\T\ output pin. Connect a resistor divider (RVM1, RVM2) between the monitored (See Datasheet)", 26 ~{RST} (hiz) "High Voltage Open Drain Reset Output. When the voltage at the VM pin is below 1.193V, this status pin is pulled low. When driven low, this pin can disable a DC/DC converter when connected to the converter’s enable pin(See Datasheet)", 27 IIMON (in) "Input Current Monitor. The voltage on this pin is 20 times (typical) the sense voltage (VIN,CLN) across the input current sense resistor(RIS), therefore providing a voltage proportional to the input current. Connect an (See Datasheet)", 28 IL (in) "Input Current Limit Programming. Connect the input current programming resistor (RIL) to this pin. This pin sources 50uA of current. The regulation loop compares the voltage on this pin with the input current monitor voltage (See Datasheet)"